# EAGLE library part TPS54A24 (library pimoroni-ics)
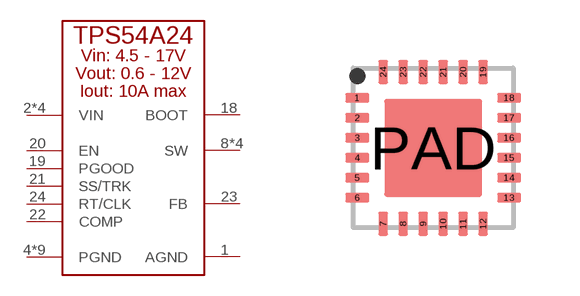
[diagram p150: symbol with the pads of WQFN24-4X4MM; footprint WQFN24-4X4MM]

Designator prefix U

## TPS54A24  [WQFN24-4X4MM]
1  AGND
2  VIN
3  VIN
4  PGND
5  PGND
6  PGND
7  PGND
8  SW
9  SW
10  SW
11  SW
12  PGND
13  PGND
14  PGND
15  PGND
16  VIN
17  VIN
18  BOOT
19  PGOOD
20  EN
21  SS/TRK
22  COMP
23  FB
24  RT/CLK
PAD  PGND

## Footprint WQFN24-4X4MM (pad centres in mm)
smd 0.6 x 0.24: 1 -1.9,1.25; 2 -1.9,0.75; 3 -1.9,0.25; 4 -1.9,-0.25; 5 -1.9,-0.75; 6 -1.9,-1.25; 13 1.9,-1.25; 14 1.9,-0.75; 15 1.9,-0.25; 16 1.9,0.25; 17 1.9,0.75; 18 1.9,1.25
smd 0.24 x 0.6: 7 -1.25,-1.9; 8 -0.75,-1.9; 9 -0.25,-1.9; 10 0.25,-1.9; 11 0.75,-1.9; 12 1.25,-1.9; 19 1.25,1.9; 20 0.75,1.9; 21 0.25,1.9; 22 -0.25,1.9; 23 -0.75,1.9; 24 -1.25,1.9
smd 2.45 x 2.45: PAD 0,0